# EAGLE library part HM-MOD-RE-8 (library homematic)
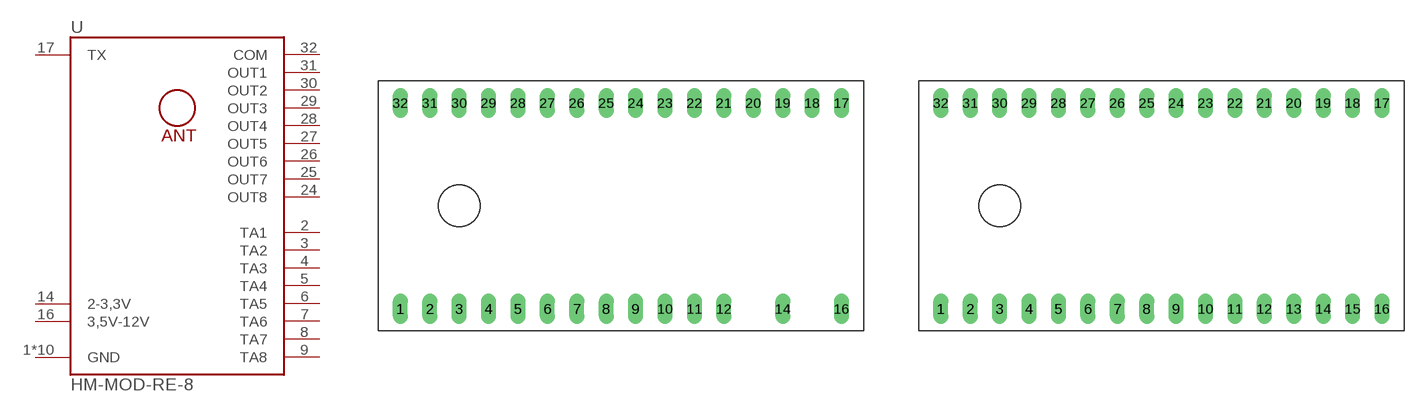
[diagram p5: symbol with the pads of HM-MOD; footprints HM-MOD, HM-MOD-FULL]

Designator prefix U

## HM-MOD-RE-8_SOLDER (VALUE: HM-MOD-Re-8)  [HM-MOD]
1  GND  pwr
2  TA1  in
3  TA2  in
4  TA3  in
5  TA4  in
6  TA5  in
7  TA6  in
8  TA7  in
9  TA8  in
10  GND  pwr
11  GND  pwr
12  GND  pwr
14  2-3,3V  pwr
16  3,5V-12V  pwr
17  TX  out
18  GND  pwr
19  GND  pwr
20  GND  pwr
21  GND  pwr
22  GND  pwr
23  GND  pwr
24  OUT8  out
25  OUT7  out
26  OUT6  out
27  OUT5  out
28  OUT4  out
29  OUT3  out
30  OUT2  out
31  OUT1  out
32  COM  in

## HM-MOD-RE-8_SOCKET (VALUE: HM-MOD-Re-8)  [HM-MOD-FULL]
Pads as for HM-MOD

## Footprint HM-MOD (pad centres in mm)
HM-MOD Footprint für folgende Homematic-Module: HM-MOD-EM-8Bit HM-MOD-EM-8 HM-MOD-Re-8
drill 0.8 long: 1 -19.05,-8.89; 2 -16.51,-8.89; 3 -13.97,-8.89; 4 -11.43,-8.89; 5 -8.89,-8.89; 6 -6.35,-8.89; 7 -3.81,-8.89; 8 -1.27,-8.89; 9 1.27,-8.89; 10 3.81,-8.89; 11 6.35,-8.89; 12 8.89,-8.89; 14 13.97,-8.89; 16 19.05,-8.89; 17 19.05,8.89; 18 16.51,8.89; 19 13.97,8.89; 20 11.43,8.89; 21 8.89,8.89; 22 6.35,8.89; 23 3.81,8.89; 24 1.27,8.89; 25 -1.27,8.89; 26 -3.81,8.89; 27 -6.35,8.89; 28 -8.89,8.89; 29 -11.43,8.89; 30 -13.97,8.89; 31 -16.51,8.89; 32 -19.05,8.89

## Footprint HM-MOD-FULL (pad centres in mm)
HM-MOD Footprint für folgende Homematic-Module: HM-MOD-EM-8Bit HM-MOD-EM-8 HM-MOD-Re-8
drill 0.8 long: 1 -19.05,-8.89; 2 -16.51,-8.89; 3 -13.97,-8.89; 4 -11.43,-8.89; 5 -8.89,-8.89; 6 -6.35,-8.89; 7 -3.81,-8.89; 8 -1.27,-8.89; 9 1.27,-8.89; 10 3.81,-8.89; 11 6.35,-8.89; 12 8.89,-8.89; 13 11.43,-8.89; 14 13.97,-8.89; 15 16.51,-8.89; 16 19.05,-8.89; 17 19.05,8.89; 18 16.51,8.89; 19 13.97,8.89; 20 11.43,8.89; 21 8.89,8.89; 22 6.35,8.89; 23 3.81,8.89; 24 1.27,8.89; 25 -1.27,8.89; 26 -3.81,8.89; 27 -6.35,8.89; 28 -8.89,8.89; 29 -11.43,8.89; 30 -13.97,8.89; 31 -16.51,8.89; 32 -19.05,8.89